# Altium integrated library NON-PCB.IntLib: 39 symbols
Pins are listed as number, name and electrical type; pins without a type are passive.

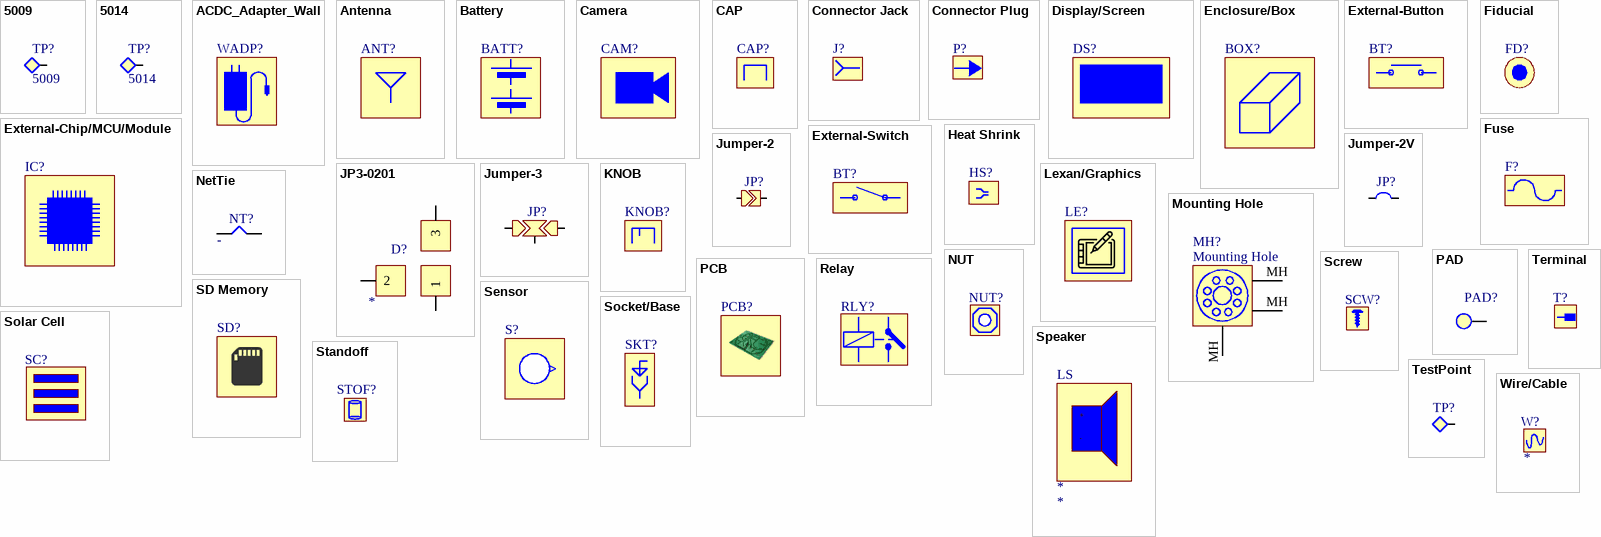
[diagram p0: symbols 5009 to Wire/Cable]

## 5009
designator TP?
Alignment Tool No-Metal Screwdriver Duplex; Manufacturer: Keystone Electronics; Plating: Silver; Body Material: Bronze,PBT; Number of Ports: 1; Inside Diameter: 1.78mm; Outside Diameter: 3.18mm; Supplier 1: Digi-Key; Manufacturer Part Number: 5009; RoHS: Yes; Category: Connectors; Stock 1: 136094; Pricing 1: 1=0,42000, 25=0,34080, 100=0,30150, 250=0,28304, 500=0,25230, 1000=0,19884, 2500=0,18180, 5000=0,17044 (USD); Mount: PCB,Through Hole; Contact Material: Bronze; Contact Plating: Silver,Tin; Color: Yellow; Material: Nylon,Bronze,Silver; Housing Color: Yellow; Insulation Material: Nylon; Packaging: Bulk; Termination: Through Hole; Orientation: Straight; Series: THM; Package Quantity: 10; Length: 8.89mm; Lead Free: Lead Free; RoHS Compliant: Yes; Reach SVHC Compliant: Yes; Flammability Rating: UL94 V-0; ComponentLink1URL: https://datasheet.ciiva.com/16507/m60-2p60-16507482.pdf?src-supplier=Future+Electronics; ComponentLink1Description: https://datasheet.ciiva.com/16507/m60-2p60-16507482.pdf?src-supplier=Future+Electronics; ComponentLink2URL: https://datasheet.ciiva.com/16884/70182825-16884487.pdf?src-supplier=Allied+Electronics; ComponentLink2Description: https://datasheet.ciiva.com/16884/70182825-16884487.pdf?src-supplier=Allied+Electronics; ComponentLink3URL: https://datasheet.ciiva.com/22631/1703983-22631112.pdf?src-supplier=Element14; ComponentLink3Description: https://datasheet.ciiva.com/22631/1703983-22631112.pdf?src-supplier=Element14; ComponentLink4URL: https://datasheet.ciiva.com/1454/1703983-1454832.pdf?src-supplier=Element14; ComponentLink4Description: https://datasheet.ciiva.com/1454/1703983-1454832.pdf?src-supplier=Element14; ComponentLink5URL: https://datasheet.ciiva.com/2917/m60-2p60-2917631.pdf?src-supplier=Digi-Key; ComponentLink5Description: https://datasheet.ciiva.com/2917/m60-2p60-2917631.pdf?src-supplier=Digi-Key; Supplier Part Number 1: 36-5009-ND
footprint KEYSTONE-5009 (PC TEST POINT MULTI PURP YELLOW)
pins: 1 TEST

## 5014
designator TP?
Test Point MultiPurpose THM H .445 Nylon 46 Insulated Yel PhosBronze/Silver; Manufacturer: Keystone Electronics; Body Material: Bronze,PBT; Plating: Silver; Inside Diameter: 1.78mm; Supplier 1: Digi-Key; Manufacturer Part Number: 5014; RoHS: Yes; Category: Connectors; Stock 1: 236184; Pricing 1: 1=0,42000, 25=0,34080, 100=0,30150, 250=0,28304, 500=0,25230, 1000=0,19884, 2500=0,18180, 5000=0,17044 (USD); Mount: PCB,Through Hole; Contact Material: Bronze; Contact Plating: Silver,Tin; Color: Yellow; Material: Nylon,Bronze,Silver; Insulation Material: Nylon; Packaging: Bulk; Termination: Through Hole; Series: THM; Package Quantity: 100; Length: 11.3mm; Height: 0.445inch; Lead Free: Lead Free; RoHS Compliant: Yes; Reach SVHC Compliant: Yes; Flammability Rating: UL94 V-0; ComponentLink1URL: https://datasheet.ciiva.com/2917/5014-2917636.pdf?src-supplier=Digi-Key; ComponentLink1Description: https://datasheet.ciiva.com/2917/5014-2917636.pdf?src-supplier=Digi-Key; ComponentLink2URL: https://datasheet.ciiva.com/16297/m60-2p60-16297225.pdf?src-supplier=Future+Electronics; ComponentLink2Description: https://datasheet.ciiva.com/16297/m60-2p60-16297225.pdf?src-supplier=Future+Electronics; ComponentLink3URL: https://datasheet.ciiva.com/22631/1703983-22631119.pdf?src-supplier=Element14; ComponentLink3Description: https://datasheet.ciiva.com/22631/1703983-22631119.pdf?src-supplier=Element14; ComponentLink4URL: https://datasheet.ciiva.com/16884/70182825-16884159.pdf?src-supplier=Allied+Electronics; ComponentLink4Description: https://datasheet.ciiva.com/16884/70182825-16884159.pdf?src-supplier=Allied+Electronics; Supplier Part Number 1: 36-5014-ND
pins: 1 TEST

## ACDC_Adapter_Wall
designator WADP?  (mechanical)
AC/DC Wall Adapter; Populated: Yes; ROHS: Yes; LifeCycle: Checked; PackageReference: *; Code_JEDEC: *
footprint N/A

## Antenna
designator ANT?  (mechanical)
External Antenna; Populated: Yes; ROHS: Yes; LifeCycle: Checked; PackageReference: *; Code_JEDEC: *
footprint N/A

## Battery
designator BATT?  (mechanical)
Battery; Populated: Yes; ROHS: Yes; Manuf1: *; Manuf1Partnumber: *; ClassName: *; HelpURL: *; Code_JEDEC: *
footprint N/A
footprint N/A

## Camera
designator CAM?  (mechanical)
External Camera; Populated: Yes; ROHS: Yes
footprint N/A

## CAP
designator CAP?  (mechanical)
Button CAP; Populated: Yes; ROHS: Yes; LifeCycle: Checked; PackageReference: *; Code_JEDEC: *
footprint N/A

## Connector Jack
designator J?  (mechanical)
Connector Jack; Populated: Yes; ROHS: Yes; Manuf1: *; Manuf1Partnumber: *; ClassName: *; HelpURL: *; Code_JEDEC: *
footprint N/A

## Connector Plug
designator P?  (mechanical)
Connector Plug; Populated: Yes; ROHS: Yes; Manuf1: *; Manuf1Partnumber: *; ClassName: *; Code_JEDEC: *; HelpURL: *
footprint N/A

## Display/Screen
designator DS?  (mechanical)
Display/Screen; Populated: Yes; ROHS: Yes; Manuf1: *; Manuf1Partnumber: *; ClassName: *; HelpURL: *; Code_JEDEC: *
footprint N/A

## Enclosure/Box
designator BOX?  (mechanical)
PCB Enclosure/BOX; Populated: Yes; ClassName: *
footprint N/A

## External-Button
designator BT?  (mechanical)
External-Chip/MCU/Module; Populated: Yes; ROHS: Yes; LifeCycle: Checked; PackageReference: *; Code_JEDEC: *
footprint N/A

## External-Chip/MCU/Module
designator IC?  (mechanical)
External-Chip/MCU/Module; Populated: Yes; ROHS: Yes; LifeCycle: Checked; PackageReference: *; Code_JEDEC: *
footprint N/A

## External-Switch
designator BT?  (mechanical)
External-Chip/MCU/Module; Populated: Yes; ROHS: Yes; LifeCycle: Checked; PackageReference: *; Code_JEDEC: *
footprint N/A

## Fiducial
designator FD?  (value not drawn)  (no BOM)
Fiducial; Populated: No; Value: *; AWG: *; Length: *; ClassName: *; ROHS: Yes
footprint FIDUCIAL

## Fuse
designator F?  (mechanical)
Fuse; Populated: Yes
footprint N/A

## Heat Shrink
designator HS?  (mechanical)
Heat Shrink; Populated: Yes
footprint N/A

## JP3-0201
designator D?
JUMPER-3 0201; Populated: Yes; Value: *; Manuf1Partnumber: *; Manuf1: *
footprint JP3-0201
pins: 1, 2, 3

## Jumper-2
designator JP?  (no BOM)
2-Pad Jumper; Populated: No; LifeCycle: Checked; ROHS: Yes
footprint JUMPER-2
footprint [0402] (Chip Resistor, 2-Leads, Body 1,00x0,50mm, IPC Medium Density)
footprint [0603] (Chip Resistor, 2-Leads, Body 1,60x0,80mm, IPC Medium Density)
footprint [0805] (Chip Resistor, 2-Leads, Body 2,00x1,25mm, IPC Medium Density)
footprint [1206] (Chip Resistor, 2-Leads, Body 3,20x1,60mm, IPC Medium Density)
footprint 0204/5
footprint 0204/7
footprint 0204V
footprint 0207/10
footprint 0207/12
footprint 0207/15
footprint 0207/2V
footprint 0207/5V
footprint 0207/7
footprint 0309/10
footprint 0309/12
footprint [0402] -JUMPER (Chip Resistor, 2-Leads, Body 1,00x0,50mm, IPC Medium Density)
pins: 1, 2

## Jumper-2V
designator JP?  (no BOM)
2-Pad Jumper; Populated: No; LifeCycle: Checked; ROHS: Yes
footprint JUMPER-2
footprint [0402] (Chip Resistor, 2-Leads, Body 1,00x0,50mm, IPC Medium Density)
footprint [0603] (Chip Resistor, 2-Leads, Body 1,60x0,80mm, IPC Medium Density)
footprint [0805] (Chip Resistor, 2-Leads, Body 2,00x1,25mm, IPC Medium Density)
footprint [1206] (Chip Resistor, 2-Leads, Body 3,20x1,60mm, IPC Medium Density)
footprint 0204/5
footprint 0204/7
footprint 0204V
footprint 0207/10
footprint 0207/12
footprint 0207/15
footprint 0207/2V
footprint 0207/5V
footprint 0207/7
footprint 0309/10
footprint 0309/12
pins: 1, 2

## Jumper-3
designator JP?  (no BOM)
3-Pad Jumper (OR); Populated: No; LifeCycle: Checked; ROHS: Yes
footprint JUMPER-3
pins: 1, 2, 3

## KNOB
designator KNOB?  (mechanical)
Button KNOB; Populated: Yes; ROHS: Yes; LifeCycle: Checked; PackageReference: *; Code_JEDEC: *
footprint N/A

## Lexan/Graphics
designator LE?  (mechanical)
Lexan/Graphics; Populated: Yes; ROHS: Yes; Manuf1: *; Manuf1Partnumber: *; ClassName: *; HelpURL: *; Code_JEDEC: *
footprint N/A

## Mounting Hole
designator MH?  (no BOM)
footprint MOUNTING_HOLE_SIZE_M3
pins: MH 1, MH 2, MH 2

## NetTie
designator NT?, comment -  (net tie, no BOM)
NetTie; Populated: No; Value: -
footprint NETTIE-0.1mm
footprint NETTIE-0.127mm
footprint NETTIE-0.2mm
footprint NETTIE-0.254MM
footprint NETTIE-0.4mm
footprint NETTIE-0.8mm
pins: 1, 2

## NUT
designator NUT?  (mechanical)
NUT; Populated: Yes
footprint N/A

## PAD
designator PAD?  (value not drawn)
footprint PAD
pins: 1 TEST

## PCB
designator PCB?  (mechanical)
PCB Printed Circuit Board; Populated: Yes; Layers: 2; Format: Standard; ROHS: Yes
footprint N/A

## Relay
designator RLY?  (mechanical)
Relay; Populated: Yes; ROHS: Yes; Manuf1: *; Manuf1Partnumber: *; ClassName: *; HelpURL: *; Code_JEDEC: *
footprint N/A
footprint N/A

## Screw
designator SCW?  (mechanical)
Screw; Populated: Yes
footprint N/A

## SD Memory
designator SD?  (mechanical)
External SD Memory Card; Populated: Yes; ROHS: Yes
footprint N/A

## Sensor
designator S?  (mechanical)
External Sensor; Populated: Yes; ROHS: Yes; LifeCycle: Checked; PackageReference: *; Code_JEDEC: *
footprint N/A

## Socket/Base
designator SKT?  (mechanical)
Socket/Base; Populated: Yes; ROHS: Yes; LifeCycle: Checked; PackageReference: *; Code_JEDEC: *
footprint N/A

## Solar Cell
designator SC?  (mechanical)
Solar Cell/Panel; Populated: Yes
footprint N/A

## Speaker
designator LS
Manufacturer Part Number: *; Value: *
text: +; -

## Standoff
designator STOF?  (mechanical)
Standoff; Populated: Yes
footprint N/A

## Terminal
designator T?  (mechanical)
Terminal (Cable-Connector); Populated: Yes; ROHS: Yes; Manuf1: *; Manuf1Partnumber: *; ClassName: *; HelpURL: *
footprint N/A

## TestPoint
designator TP?  (no BOM)
Test Point
footprint TestPoint-1mm
footprint TestPoint-2mm
footprint TestPoint-0.5mm
pins: 1 TEST

## Wire/Cable
designator W?  (mechanical)
Wire/Cable; Populated: Yes; Value: *; AWG: *; Length: *; ClassName: *; ROHS: Yes
footprint N/A